# EAGLE library part MB81C68PSZ (library micro-fujitsu)
MICROCONTROLLER/MEMORY DEVICE
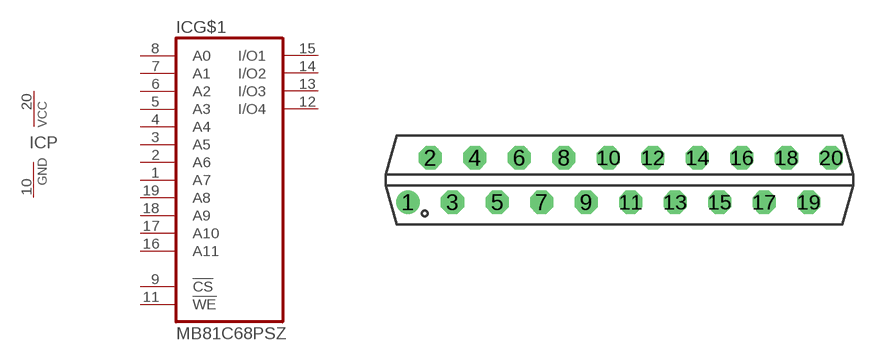
[diagram p3: symbol with the pads of ZIP20P; footprint ZIP20P]

Designator prefix IC; gates G$1=MB81C68 P=VCC-GND

## MB81C68PSZ  [ZIP20P]
1  G$1:A7  in
2  G$1:A6  in
3  G$1:A5  in
4  G$1:A4  in
5  G$1:A3  in
6  G$1:A2  in
7  G$1:A1  in
8  G$1:A0  in
9  G$1:!CS  in
10  P:GND  pwr
11  G$1:!WE  in
12  G$1:I/O4
13  G$1:I/O3
14  G$1:I/O2
15  G$1:I/O1
16  G$1:A11  in
17  G$1:A10  in
18  G$1:A9  in
19  G$1:A8  in
20  P:VCC  pwr

## Footprint ZIP20P (pad centres in mm)
Single In Line
drill 0.813 round: 1 -10.16,-1.27
drill 0.813 octagon: 2 -8.89,1.27; 3 -7.62,-1.27; 4 -6.35,1.27; 5 -5.08,-1.27; 6 -3.81,1.27; 7 -2.54,-1.27; 8 -1.27,1.27; 9 0,-1.27; 10 1.27,1.27; 11 2.54,-1.27; 12 3.81,1.27; 13 5.08,-1.27; 14 6.35,1.27; 15 7.62,-1.27; 16 8.89,1.27; 17 10.16,-1.27; 18 11.43,1.27; 19 12.7,-1.27; 20 13.97,1.27